# EAGLE library part PIC16C56*SS (library 00_cody)
MICROCONTROLLER EPROM/ROM-based
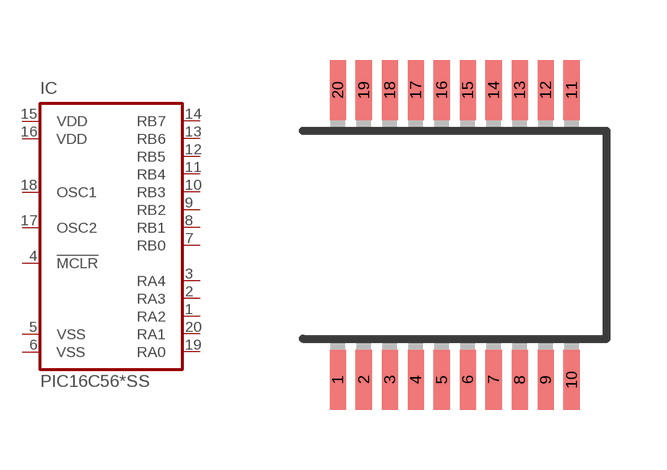
[diagram p2: symbol with the pads of SSOP20; footprint SSOP20]

Designator prefix IC

## PIC16C56SS (MF: MICROCHIP; MPN: PIC16C56A-04/SS; OC_FARNELL: 116506; OC_NEWARK: 23C3557), PIC16C56ASS (MF: MICROCHIP; MPN: PIC16C56A-04/SS; OC_FARNELL: 116506; OC_NEWARK: 23C3557)  [SSOP20]
1  RA2
2  RA3
3  RA4
4  !MCLR  in
5  VSS  pwr
6  VSS  pwr
7  RB0
8  RB1
9  RB2
10  RB3
11  RB4
12  RB5
13  RB6
14  RB7
15  VDD  pwr
16  VDD  pwr
17  OSC2  out
18  OSC1  in
19  RA0
20  RA1

## Footprint SSOP20 (pad centres in mm)
Shrink Small Outline Package package type SS
smd 0.4 x 1.5: 1 -2.925,-3.625; 2 -2.275,-3.625; 3 -1.625,-3.625; 4 -0.975,-3.625; 5 -0.325,-3.625; 6 0.325,-3.625; 7 0.975,-3.625; 8 1.625,-3.625; 9 2.275,-3.625; 10 2.925,-3.625; 11 2.925,3.625; 12 2.275,3.625; 13 1.625,3.625; 14 0.975,3.625; 15 0.325,3.625; 16 -0.325,3.625; 17 -0.975,3.625; 18 -1.625,3.625; 19 -2.275,3.625; 20 -2.925,3.625